# Altium integrated library TI_Logic_Flip-Flop,Latch,Register.IntLib: 2598 symbols (part 82 of 122)
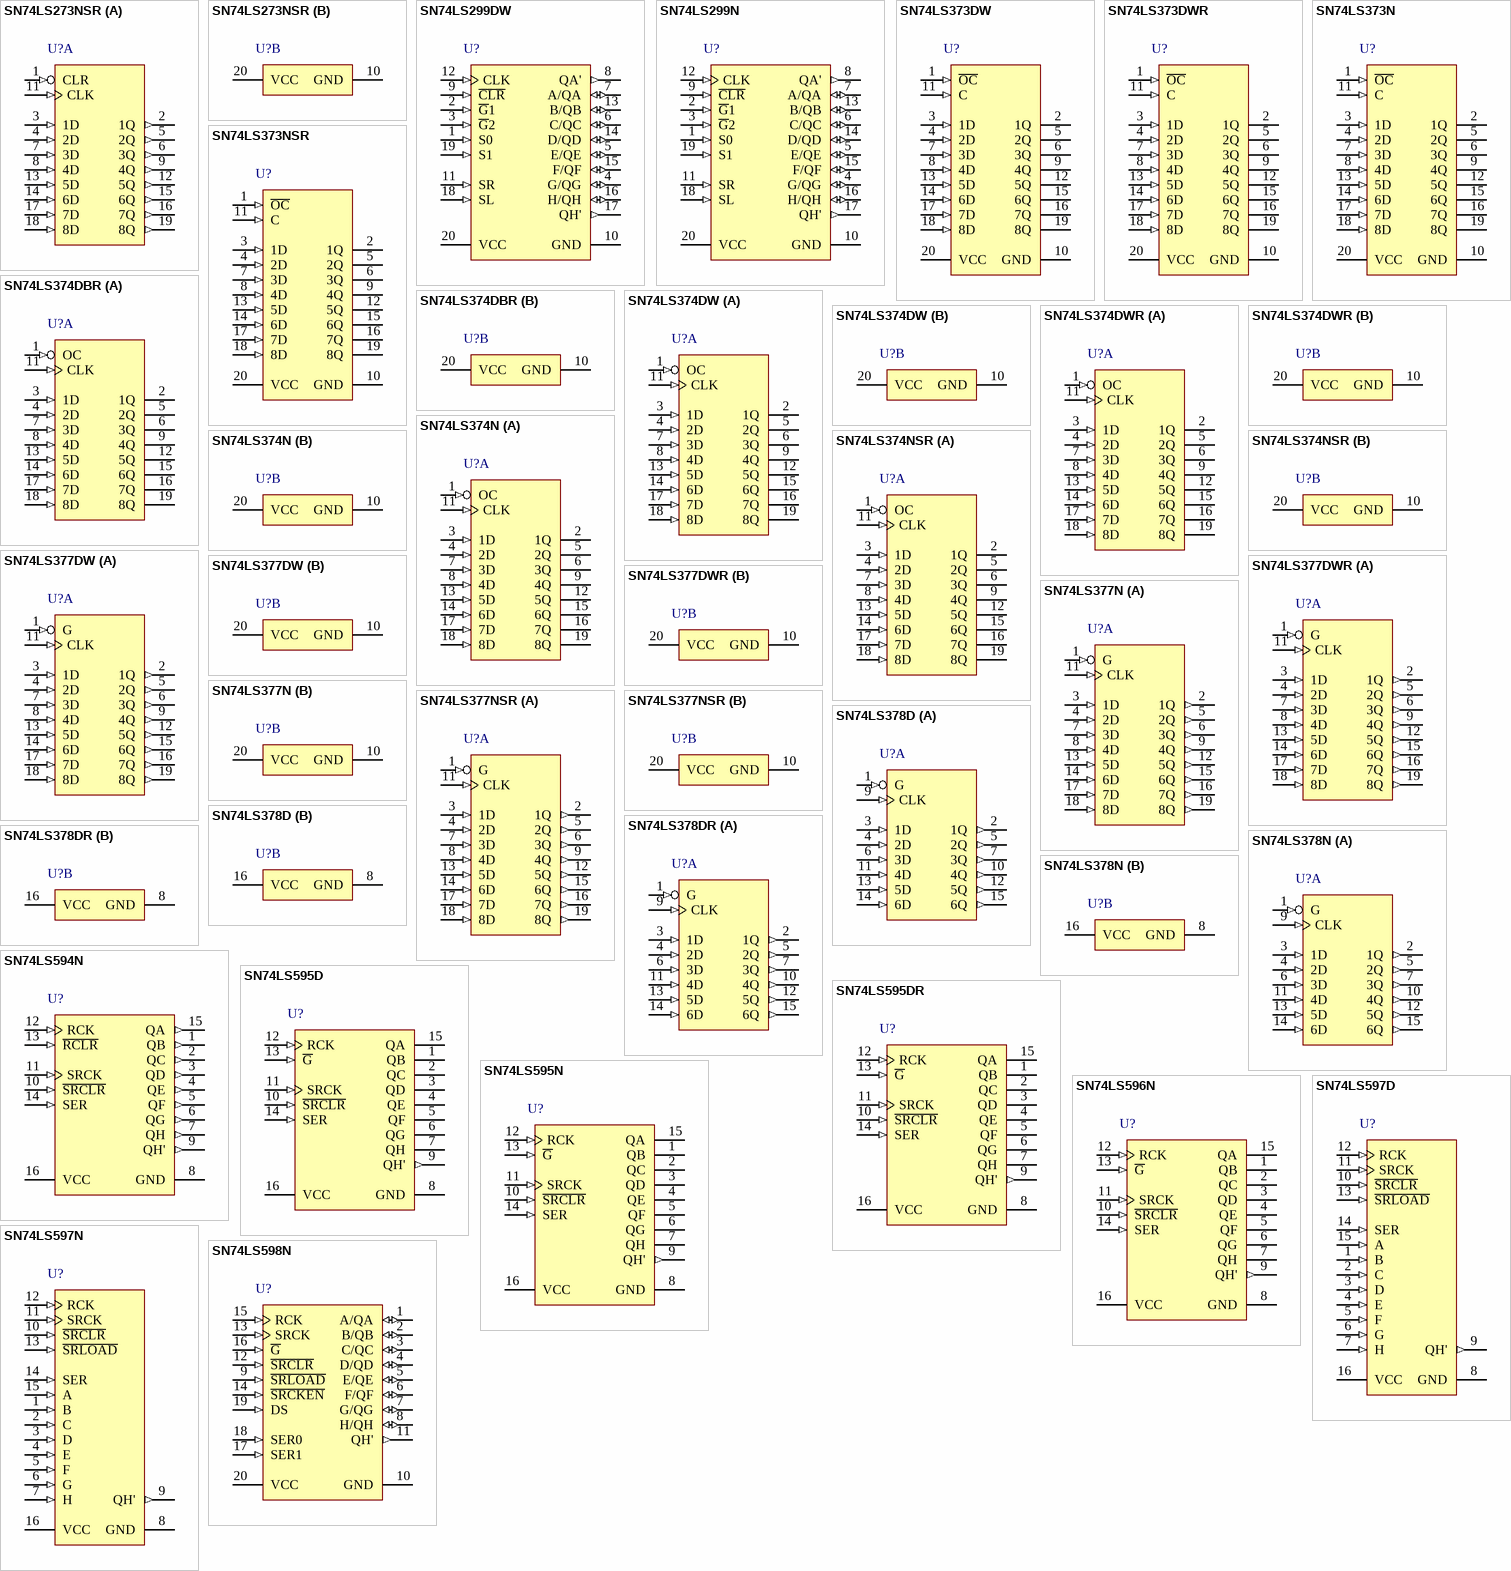
[diagram p220: symbols SN74LS273NSR to SN74LS598N]

## SN74LS377DWR
designator U?
Octal D-Type Flip-Flops With Clock Enable, DW0020A, LARGE T&R; Generic Part Number: SN74LS377; Manufacturer: Texas Instruments; PartNumber: SN74LS377DWR; VCC(Min)(V): 4.75; VCC(Max)(V): 5.25; Output Type: TTL; Output: 2S; ICC @ Nom Voltage(Max)(mA): 28; Bits(#): 8; F @ Nom Voltage(Max)(Mhz): 35; Rating: Catalog; Technology Family: LS; Voltage(Nom)(V): 5; Schmitt Trigger: No; Output Drive (IOL/IOH)(Max)(mA): 8/-0.4; Output Logic: Inverted,Non-inverted; tpd @ Nom Voltage(Max)(ns): 27; DatasheetVersion: SDLS167; PackageReference: DW0020A; Supplier 1: Digi-Key; Supplier Part Number 1: 296-3703-2-ND; Supplier 2: Digi-Key; Supplier Part Number 2: 296-3703-1-ND; Supplier 3: Mouser; Supplier Part Number 3: 595-SN74LS377DWR; Input Type: TTL; Operating Temperature Range(C): 0 to 70; 3-State Output: No; Code_JEDEC: MS-013; ComponentLink1Description: Manufacturer URL; ComponentLink1URL: http://www.ti.com/; ComponentLink2Description: Datasheet; ComponentLink2URL: http://www.ti.com/lit/ds/symlink/sn74ls377.pdf; ComponentLink3Description: Package Specification; ComponentLink3URL: http://www.ti.com/lit/ml/mpds173a/mpds173a.pdf
footprint DW0020A_N (SOIC, 20-Leads, Body 13x7.6mm, Pitch 1.27mm, IPC Medium Density)
footprint DW0020A_M (SOIC, 20-Leads, Body 13x7.6mm, Pitch 1.27mm, IPC Low Density)
footprint DW0020A_L (SOIC, 20-Leads, Body 13x7.6mm, Pitch 1.27mm, IPC High Density)
part A pins: 1 G (in), 2 1Q (out), 3 1D (in), 4 2D (in), 5 2Q (out), 6 3Q (out), 7 3D (in), 8 4D (in), 9 4Q (out), 11 CLK (in), 12 5Q (out), 13 5D (in), 14 6D (in), 15 6Q (out), 16 7Q (out), 17 7D (in), 18 8D (in), 19 8Q (out)
part B pins: 10 GND (power), 20 VCC (power)

## SN74LS377N
designator U?
Octal D-Type Flip-Flops With Clock Enable, N0020A, TUBE; Generic Part Number: SN74LS377; Manufacturer: Texas Instruments; PartNumber: SN74LS377N; VCC(Min)(V): 4.75; VCC(Max)(V): 5.25; Output Type: TTL; Output: 2S; ICC @ Nom Voltage(Max)(mA): 28; Bits(#): 8; F @ Nom Voltage(Max)(Mhz): 35; Rating: Catalog; Technology Family: LS; Voltage(Nom)(V): 5; Schmitt Trigger: No; Output Drive (IOL/IOH)(Max)(mA): 8/-0.4; Output Logic: Inverted,Non-inverted; tpd @ Nom Voltage(Max)(ns): 27; DatasheetVersion: SDLS167; PackageReference: N0020A; Supplier 1: Digi-Key; Supplier Part Number 1: 296-1663-5-ND; Supplier 2: Farnell; Supplier Part Number 2: 1739884; Supplier 3: Newark; Supplier Part Number 3: 59K9087; Supplier 4: Mouser; Supplier Part Number 4: 595-SN74LS377N; Input Type: TTL; Operating Temperature Range(C): 0 to 70; 3-State Output: No; Code_JEDEC: MS-001; ComponentLink1Description: Manufacturer URL; ComponentLink1URL: http://www.ti.com/; ComponentLink2Description: Datasheet; ComponentLink2URL: http://www.ti.com/lit/ds/symlink/sn74ls377.pdf; ComponentLink3Description: Package Specification; ComponentLink3URL: http://www.ti.com/lit/ml/mpdi002c/mpdi002c.pdf
footprint N0020A (DIP, 20-Leads, Body 26.9x6.6mm, Pitch 2.54mm)
part A pins: 1 G (in), 2 1Q (out), 3 1D (in), 4 2D (in), 5 2Q (out), 6 3Q (out), 7 3D (in), 8 4D (in), 9 4Q (out), 11 CLK (in), 12 5Q (out), 13 5D (in), 14 6D (in), 15 6Q (out), 16 7Q (out), 17 7D (in), 18 8D (in), 19 8Q (out)
part B pins: 10 GND (power), 20 VCC (power)

## SN74LS377NSR
designator U?
Octal D-Type Flip-Flops With Clock Enable, NS0020A, LARGE T&R; Generic Part Number: SN74LS377; Manufacturer: Texas Instruments; PartNumber: SN74LS377NSR; VCC(Min)(V): 4.75; VCC(Max)(V): 5.25; Output Type: TTL; Output: 2S; ICC @ Nom Voltage(Max)(mA): 28; Bits(#): 8; F @ Nom Voltage(Max)(Mhz): 35; Rating: Catalog; Technology Family: LS; Voltage(Nom)(V): 5; Schmitt Trigger: No; Output Drive (IOL/IOH)(Max)(mA): 8/-0.4; Output Logic: Inverted,Non-inverted; tpd @ Nom Voltage(Max)(ns): 27; DatasheetVersion: SDLS167; PackageReference: NS0020A; Supplier 1: Digi-Key; Supplier Part Number 1: 296-29917-2-ND; Supplier 2: Digi-Key; Supplier Part Number 2: 296-29917-1-ND; Supplier 3: Digi-Key; Supplier Part Number 3: 296-29917-6-ND; Supplier 4: Mouser; Supplier Part Number 4: 595-SN74LS377NSR; Input Type: TTL; Operating Temperature Range(C): 0 to 70; 3-State Output: No; ComponentLink1Description: Manufacturer URL; ComponentLink1URL: http://www.ti.com/; ComponentLink2Description: Datasheet; ComponentLink2URL: http://www.ti.com/lit/ds/symlink/sn74ls377.pdf; ComponentLink3Description: Package Specification; ComponentLink3URL: http://www.ti.com/lit/ml/msop002a/msop002a.pdf
footprint NS0020A_N (SOIC,20-Leads,Body 12.9x5.6mm,Pitch 1.27mm,IPC Medium Density)
footprint NS0020A_M (SOIC,20-Leads,Body 12.9x5.6mm,Pitch 1.27mm,IPC Low Density)
footprint NS0020A_L (SOIC,20-Leads,Body 12.9x5.6mm,Pitch 1.27mm,IPC High Density)
part A pins: 1 G (in), 2 1Q (out), 3 1D (in), 4 2D (in), 5 2Q (out), 6 3Q (out), 7 3D (in), 8 4D (in), 9 4Q (out), 11 CLK (in), 12 5Q (out), 13 5D (in), 14 6D (in), 15 6Q (out), 16 7Q (out), 17 7D (in), 18 8D (in), 19 8Q (out)
part B pins: 10 GND (power), 20 VCC (power)

## SN74LS378D
designator U?
Hex D-Type Flip-Flops with Clock Enable, D0016A, TUBE; Generic Part Number: SN74LS378; Manufacturer: Texas Instruments; PartNumber: SN74LS378D; VCC(Min)(V): 4.75; VCC(Max)(V): 5.25; Output Type: TTL; Output: 2S; ICC @ Nom Voltage(Max)(mA): 22; Bits(#): 6; F @ Nom Voltage(Max)(Mhz): 35; Rating: Catalog; Technology Family: LS; Voltage(Nom)(V): 5; Schmitt Trigger: No; Output Drive (IOL/IOH)(Max)(mA): 8/-0.4; Output Logic: Inverted,Non-inverted; tpd @ Nom Voltage(Max)(ns): 27; DatasheetVersion: SDLS167; PackageReference: D0016A; Supplier 1: Digi-Key; Supplier Part Number 1: 296-34002-5-ND; Supplier 2: Mouser; Supplier Part Number 2: 595-SN74LS378D; Input Type: TTL; Operating Temperature Range(C): 0 to 70; 3-State Output: No; Code_JEDEC: MS-012 variation AC; ComponentLink1Description: Manufacturer URL; ComponentLink1URL: http://www.ti.com/; ComponentLink2Description: Datasheet; ComponentLink2URL: http://www.ti.com/lit/ds/symlink/sn74ls378.pdf; ComponentLink3Description: Package Specification; ComponentLink3URL: http://www.ti.com/lit/ml/mpds178g/mpds178g.pdf
footprint D0016A_N (SOIC, 16-Leads, Body 10x4mm, Pitch 1.27mm, IPC Medium Density)
footprint D0016A_M (SOIC, 16-Leads, Body 10x4mm, Pitch 1.27mm, IPC Low Density)
footprint D0016A_L (SOIC, 16-Leads, Body 10x4mm, Pitch 1.27mm, IPC High Density)
part A pins: 1 G (in), 2 1Q (out), 3 1D (in), 4 2D (in), 5 2Q (out), 6 3D (in), 7 3Q (out), 9 CLK (in), 10 4Q (out), 11 4D (in), 12 5Q (out), 13 5D (in), 14 6D (in), 15 6Q (out)
part B pins: 8 GND (power), 16 VCC (power)

## SN74LS378DR
designator U?
Hex D-Type Flip-Flops with Clock Enable, D0016A, LARGE T&R; Generic Part Number: SN74LS378; Manufacturer: Texas Instruments; PartNumber: SN74LS378DR; VCC(Min)(V): 4.75; VCC(Max)(V): 5.25; Output Type: TTL; Output: 2S; ICC @ Nom Voltage(Max)(mA): 22; Bits(#): 6; F @ Nom Voltage(Max)(Mhz): 35; Rating: Catalog; Technology Family: LS; Voltage(Nom)(V): 5; Schmitt Trigger: No; Output Drive (IOL/IOH)(Max)(mA): 8/-0.4; Output Logic: Inverted,Non-inverted; tpd @ Nom Voltage(Max)(ns): 27; DatasheetVersion: SDLS167; PackageReference: D0016A; Supplier 1: Digi-Key; Supplier Part Number 1: 296-29450-2-ND; Supplier 2: Digi-Key; Supplier Part Number 2: 296-29450-1-ND; Supplier 3: Digi-Key; Supplier Part Number 3: 296-29450-6-ND; Supplier 4: Mouser; Supplier Part Number 4: 595-SN74LS378DR; Input Type: TTL; Operating Temperature Range(C): 0 to 70; 3-State Output: No; Code_JEDEC: MS-012 variation AC; ComponentLink1Description: Manufacturer URL; ComponentLink1URL: http://www.ti.com/; ComponentLink2Description: Datasheet; ComponentLink2URL: http://www.ti.com/lit/ds/symlink/sn74ls378.pdf; ComponentLink3Description: Package Specification; ComponentLink3URL: http://www.ti.com/lit/ml/mpds178g/mpds178g.pdf
footprint D0016A_N (SOIC, 16-Leads, Body 10x4mm, Pitch 1.27mm, IPC Medium Density)
footprint D0016A_M (SOIC, 16-Leads, Body 10x4mm, Pitch 1.27mm, IPC Low Density)
footprint D0016A_L (SOIC, 16-Leads, Body 10x4mm, Pitch 1.27mm, IPC High Density)
part A pins: 1 G (in), 2 1Q (out), 3 1D (in), 4 2D (in), 5 2Q (out), 6 3D (in), 7 3Q (out), 9 CLK (in), 10 4Q (out), 11 4D (in), 12 5Q (out), 13 5D (in), 14 6D (in), 15 6Q (out)
part B pins: 8 GND (power), 16 VCC (power)

## SN74LS378N
designator U?
Hex D-Type Flip-Flops with Clock Enable, N0016A, TUBE; Generic Part Number: SN74LS378; Manufacturer: Texas Instruments; PartNumber: SN74LS378N; VCC(Min)(V): 4.75; VCC(Max)(V): 5.25; Output Type: TTL; Output: 2S; ICC @ Nom Voltage(Max)(mA): 22; Bits(#): 6; F @ Nom Voltage(Max)(Mhz): 35; Rating: Catalog; Technology Family: LS; Voltage(Nom)(V): 5; Schmitt Trigger: No; Output Drive (IOL/IOH)(Max)(mA): 8/-0.4; Output Logic: Inverted,Non-inverted; tpd @ Nom Voltage(Max)(ns): 27; DatasheetVersion: SDLS167; PackageReference: N0016A; Supplier 1: Digi-Key; Supplier Part Number 1: 296-34003-5-ND; Supplier 2: Farnell; Supplier Part Number 2: 1739885; Supplier 3: Newark; Supplier Part Number 3: 50R6563; Supplier 4: Mouser; Supplier Part Number 4: 595-SN74LS378N; Input Type: TTL; Operating Temperature Range(C): 0 to 70; 3-State Output: No; Code_JEDEC: MS-001; ComponentLink1Description: Manufacturer URL; ComponentLink1URL: http://www.ti.com/; ComponentLink2Description: Datasheet; ComponentLink2URL: http://www.ti.com/lit/ds/symlink/sn74ls378.pdf; ComponentLink3Description: Package Specification; ComponentLink3URL: http://www.ti.com/lit/ml/mpdi002c/mpdi002c.pdf
footprint N0016A (DIP, 16-Leads, Body 19.7x6.6mm, Pitch 2.54mm)
part A pins: 1 G (in), 2 1Q (out), 3 1D (in), 4 2D (in), 5 2Q (out), 6 3D (in), 7 3Q (out), 9 CLK (in), 10 4Q (out), 11 4D (in), 12 5Q (out), 13 5D (in), 14 6D (in), 15 6Q (out)
part B pins: 8 GND (power), 16 VCC (power)

## SN74LS594N
designator U?
Serial-in shift registers with output latches, N0016A, TUBE; Generic Part Number: SN74LS594; Manufacturer: Texas Instruments; PartNumber: SN74LS594N; Technology Family: LS; VCC(Min)(V): 4.75; VCC(Max)(V): 5.25; Voltage(Nom)(V): 5; F @ Nom Voltage(Max)(Mhz): 35; ICC @ Nom Voltage(Max)(mA): 65; tpd @ Nom Voltage(Max)(ns): 25; Output Drive (IOL/IOH)(Max)(mA): 24/-2.6; Input Type: TTL; 3-State Output: No; Rating: Catalog; DatasheetVersion: SDLS005; PackageReference: N0016A; Output Type: TTL; Operating Temperature Range(C): 0 to 70; Code_JEDEC: MS-001; ComponentLink1Description: Manufacturer URL; ComponentLink1URL: http://www.ti.com/; ComponentLink2Description: Datasheet; ComponentLink2URL: http://www.ti.com/lit/ds/symlink/sn74ls594.pdf; ComponentLink3Description: Package Specification; ComponentLink3URL: http://www.ti.com/lit/ml/mpdi002c/mpdi002c.pdf
footprint N0016A (DIP, 16-Leads, Body 19.7x6.6mm, Pitch 2.54mm)
pins: 1 QB (out), 2 QC (out), 3 QD (out), 4 QE (out), 5 QF (out), 6 QG (out), 7 QH (out), 8 GND (power), 9 QH' (out), 10 ~{SRCLR} (in), 11 SRCK (in), 12 RCK (in), 13 ~{RCLR} (in), 14 SER (in), 15 QA (out), 16 VCC (power)

## SN74LS595D
designator U?
Serial-in shift registers with output registers, D0016A, TUBE; Generic Part Number: SN74LS595; Manufacturer: Texas Instruments; PartNumber: SN74LS595D; Technology Family: LS; VCC(Min)(V): 4.75; VCC(Max)(V): 5.25; Voltage(Nom)(V): 5; F @ Nom Voltage(Max)(Mhz): 35; ICC @ Nom Voltage(Max)(mA): 65; tpd @ Nom Voltage(Max)(ns): 25; Output Drive (IOL/IOH)(Max)(mA): 24/-2.6; Input Type: TTL; 3-State Output: Yes; Rating: Catalog; Bits: 8; DatasheetVersion: SDLS006; PackageReference: D0016A; Output Type: TTL; Operating Temperature Range(C): 0 to 70; Code_JEDEC: MS-012 variation AC; ComponentLink1Description: Manufacturer URL; ComponentLink1URL: http://www.ti.com/; ComponentLink2Description: Datasheet; ComponentLink2URL: http://www.ti.com/lit/ds/symlink/sn74ls595.pdf; ComponentLink3Description: Package Specification; ComponentLink3URL: http://www.ti.com/lit/ml/mpds178g/mpds178g.pdf
footprint D0016A_N (SOIC, 16-Leads, Body 10x4mm, Pitch 1.27mm, IPC Medium Density)
footprint D0016A_M (SOIC, 16-Leads, Body 10x4mm, Pitch 1.27mm, IPC Low Density)
footprint D0016A_L (SOIC, 16-Leads, Body 10x4mm, Pitch 1.27mm, IPC High Density)
pins: 1 QB (hiz), 2 QC (hiz), 3 QD (hiz), 4 QE (hiz), 5 QF (hiz), 6 QG (hiz), 7 QH (hiz), 8 GND (power), 9 QH' (out), 10 ~{SRCLR} (in), 11 SRCK (in), 12 RCK (in), 13 ~{G} (in), 14 SER (in), 15 QA (hiz), 16 VCC (power)

## SN74LS595DR
designator U?
Serial-in shift registers with output registers, D0016A, LARGE T&R; Generic Part Number: SN74LS595; Manufacturer: Texas Instruments; PartNumber: SN74LS595DR; Technology Family: LS; VCC(Min)(V): 4.75; VCC(Max)(V): 5.25; Voltage(Nom)(V): 5; F @ Nom Voltage(Max)(Mhz): 35; ICC @ Nom Voltage(Max)(mA): 65; tpd @ Nom Voltage(Max)(ns): 25; Output Drive (IOL/IOH)(Max)(mA): 24/-2.6; Input Type: TTL; 3-State Output: Yes; Rating: Catalog; Bits: 8; DatasheetVersion: SDLS006; PackageReference: D0016A; Output Type: TTL; Operating Temperature Range(C): 0 to 70; Code_JEDEC: MS-012 variation AC; ComponentLink1Description: Manufacturer URL; ComponentLink1URL: http://www.ti.com/; ComponentLink2Description: Datasheet; ComponentLink2URL: http://www.ti.com/lit/ds/symlink/sn74ls595.pdf; ComponentLink3Description: Package Specification; ComponentLink3URL: http://www.ti.com/lit/ml/mpds178g/mpds178g.pdf
footprint D0016A_N (SOIC, 16-Leads, Body 10x4mm, Pitch 1.27mm, IPC Medium Density)
footprint D0016A_M (SOIC, 16-Leads, Body 10x4mm, Pitch 1.27mm, IPC Low Density)
footprint D0016A_L (SOIC, 16-Leads, Body 10x4mm, Pitch 1.27mm, IPC High Density)
pins: 1 QB (hiz), 2 QC (hiz), 3 QD (hiz), 4 QE (hiz), 5 QF (hiz), 6 QG (hiz), 7 QH (hiz), 8 GND (power), 9 QH' (out), 10 ~{SRCLR} (in), 11 SRCK (in), 12 RCK (in), 13 ~{G} (in), 14 SER (in), 15 QA (hiz), 16 VCC (power)

## SN74LS595N
designator U?
Serial-in shift registers with output registers, N0016A, TUBE; Generic Part Number: SN74LS595; Manufacturer: Texas Instruments; PartNumber: SN74LS595N; Technology Family: LS; VCC(Min)(V): 4.75; VCC(Max)(V): 5.25; Voltage(Nom)(V): 5; F @ Nom Voltage(Max)(Mhz): 35; ICC @ Nom Voltage(Max)(mA): 65; tpd @ Nom Voltage(Max)(ns): 25; Output Drive (IOL/IOH)(Max)(mA): 24/-2.6; Input Type: TTL; 3-State Output: Yes; Rating: Catalog; Bits: 8; DatasheetVersion: SDLS006; PackageReference: N0016A; Output Type: TTL; Operating Temperature Range(C): 0 to 70; Code_JEDEC: MS-001; ComponentLink1Description: Manufacturer URL; ComponentLink1URL: http://www.ti.com/; ComponentLink2Description: Datasheet; ComponentLink2URL: http://www.ti.com/lit/ds/symlink/sn74ls595.pdf; ComponentLink3Description: Package Specification; ComponentLink3URL: http://www.ti.com/lit/ml/mpdi002c/mpdi002c.pdf
footprint N0016A (DIP, 16-Leads, Body 19.7x6.6mm, Pitch 2.54mm)
pins: 1 QB (hiz), 2 QC (hiz), 3 QD (hiz), 4 QE (hiz), 5 QF (hiz), 6 QG (hiz), 7 QH (hiz), 8 GND (power), 9 QH' (out), 10 ~{SRCLR} (in), 11 SRCK (in), 12 RCK (in), 13 ~{G} (in), 14 SER (in), 15 QA (hiz), 16 VCC (power)

## SN74LS596N
designator U?
Serial-in shift registers with output registers and open collector outputs, N0016A, TUBE; Generic Part Number: SN74LS596; Manufacturer: Texas Instruments; PartNumber: SN74LS596N; Technology Family: LS; VCC(Min)(V): 4.75; VCC(Max)(V): 5.25; Voltage(Nom)(V): 5; F @ Nom Voltage(Max)(Mhz): 35; ICC @ Nom Voltage(Max)(mA): 55; tpd @ Nom Voltage(Max)(ns): 30; Output Drive (IOL/IOH)(Max)(mA): 24/-2.6; Input Type: TTL; 3-State Output: Yes; Rating: Catalog; Bits: 8; DatasheetVersion: SDLS006; PackageReference: N0016A; Output Type: TTL; Operating Temperature Range(C): 0 to 70; Code_JEDEC: MS-001; ComponentLink1Description: Manufacturer URL; ComponentLink1URL: http://www.ti.com/; ComponentLink2Description: Datasheet; ComponentLink2URL: http://www.ti.com/lit/ds/symlink/sn74ls596.pdf; ComponentLink3Description: Package Specification; ComponentLink3URL: http://www.ti.com/lit/ml/mpdi002c/mpdi002c.pdf
footprint N0016A (DIP, 16-Leads, Body 19.7x6.6mm, Pitch 2.54mm)
pins: 1 QB (oc), 2 QC (oc), 3 QD (oc), 4 QE (oc), 5 QF (oc), 6 QG (oc), 7 QH (oc), 8 GND (power), 9 QH' (out), 10 ~{SRCLR} (in), 11 SRCK (in), 12 RCK (in), 13 ~{G} (in), 14 SER (in), 15 QA (oc), 16 VCC (power)

## SN74LS597D
designator U?
Serial-out shift registers with input latches, D0016A, TUBE; Generic Part Number: SN74LS597; Manufacturer: Texas Instruments; PartNumber: SN74LS597D; Technology Family: LS; VCC(Min)(V): 4.75; VCC(Max)(V): 5.25; Voltage(Nom)(V): 5; F @ Nom Voltage(Max)(Mhz): 35; ICC @ Nom Voltage(Max)(mA): 53; tpd @ Nom Voltage(Max)(ns): 30; Output Drive (IOL/IOH)(Max)(mA): 24/-2.6; Input Type: TTL; 3-State Output: No; Rating: Catalog; Bits: 8; DatasheetVersion: SDLS007; PackageReference: D0016A; Output Type: TTL; Operating Temperature Range(C): 0 to 70; Code_JEDEC: MS-012 variation AC; ComponentLink1Description: Manufacturer URL; ComponentLink1URL: http://www.ti.com/; ComponentLink2Description: Datasheet; ComponentLink2URL: http://www.ti.com/lit/ds/symlink/sn74ls597.pdf; ComponentLink3Description: Package Specification; ComponentLink3URL: http://www.ti.com/lit/ml/mpds178g/mpds178g.pdf
footprint D0016A_N (SOIC, 16-Leads, Body 10x4mm, Pitch 1.27mm, IPC Medium Density)
footprint D0016A_M (SOIC, 16-Leads, Body 10x4mm, Pitch 1.27mm, IPC Low Density)
footprint D0016A_L (SOIC, 16-Leads, Body 10x4mm, Pitch 1.27mm, IPC High Density)
pins: 1 B (in), 2 C (in), 3 D (in), 4 E (in), 5 F (in), 6 G (in), 7 H (in), 8 GND (power), 9 QH' (out), 10 ~{SRCLR} (in), 11 SRCK (in), 12 RCK (in), 13 ~{SRLOAD} (in), 14 SER (in), 15 A (in), 16 VCC (power)

## SN74LS597N
designator U?
Serial-out shift registers with input latches, N0016A, TUBE; Generic Part Number: SN74LS597; Manufacturer: Texas Instruments; PartNumber: SN74LS597N; Technology Family: LS; VCC(Min)(V): 4.75; VCC(Max)(V): 5.25; Voltage(Nom)(V): 5; F @ Nom Voltage(Max)(Mhz): 35; ICC @ Nom Voltage(Max)(mA): 53; tpd @ Nom Voltage(Max)(ns): 30; Output Drive (IOL/IOH)(Max)(mA): 24/-2.6; Input Type: TTL; 3-State Output: No; Rating: Catalog; Bits: 8; DatasheetVersion: SDLS007; PackageReference: N0016A; Output Type: TTL; Operating Temperature Range(C): 0 to 70; Code_JEDEC: MS-001; ComponentLink1Description: Manufacturer URL; ComponentLink1URL: http://www.ti.com/; ComponentLink2Description: Datasheet; ComponentLink2URL: http://www.ti.com/lit/ds/symlink/sn74ls597.pdf; ComponentLink3Description: Package Specification; ComponentLink3URL: http://www.ti.com/lit/ml/mpdi002c/mpdi002c.pdf
footprint N0016A (DIP, 16-Leads, Body 19.7x6.6mm, Pitch 2.54mm)
pins: 1 B (in), 2 C (in), 3 D (in), 4 E (in), 5 F (in), 6 G (in), 7 H (in), 8 GND (power), 9 QH' (out), 10 ~{SRCLR} (in), 11 SRCK (in), 12 RCK (in), 13 ~{SRLOAD} (in), 14 SER (in), 15 A (in), 16 VCC (power)

## SN74LS598N
designator U?
Shift registers with input latches, N0020A, TUBE; Generic Part Number: SN74LS598; Manufacturer: Texas Instruments; PartNumber: SN74LS598N; Technology Family: LS; VCC(Min)(V): 4.75; VCC(Max)(V): 5.25; Voltage(Nom)(V): 5; F @ Nom Voltage(Max)(Mhz): 35; ICC @ Nom Voltage(Max)(mA): 85; tpd @ Nom Voltage(Max)(ns): 23; Output Drive (IOL/IOH)(Max)(mA): 24/-2.6; Input Type: TTL; 3-State Output: No; Rating: Catalog; Bits: 8; DatasheetVersion: SDLS007; PackageReference: N0020A; Output Type: TTL; Operating Temperature Range(C): 0 to 70; Code_JEDEC: MS-001; ComponentLink1Description: Manufacturer URL; ComponentLink1URL: http://www.ti.com/; ComponentLink2Description: Datasheet; ComponentLink2URL: http://www.ti.com/lit/ds/symlink/sn74ls598.pdf; ComponentLink3Description: Package Specification; ComponentLink3URL: http://www.ti.com/lit/ml/mpdi002c/mpdi002c.pdf
footprint N0020A (DIP, 20-Leads, Body 26.9x6.6mm, Pitch 2.54mm)
pins: 1 A/QA (io), 2 B/QB (io), 3 C/QC (io), 4 D/QD (io), 5 E/QE (io), 6 F/QF (io), 7 G/QG (io), 8 H/QH (io), 9 ~{SRLOAD} (in), 10 GND (power), 11 QH' (out), 12 ~{SRCLR} (in), 13 SRCK (in), 14 ~{SRCKEN} (in), 15 RCK (in), 16 ~{G} (in), 17 SER1 (in), 18 SER0 (in), 19 DS (in), 20 VCC (power)

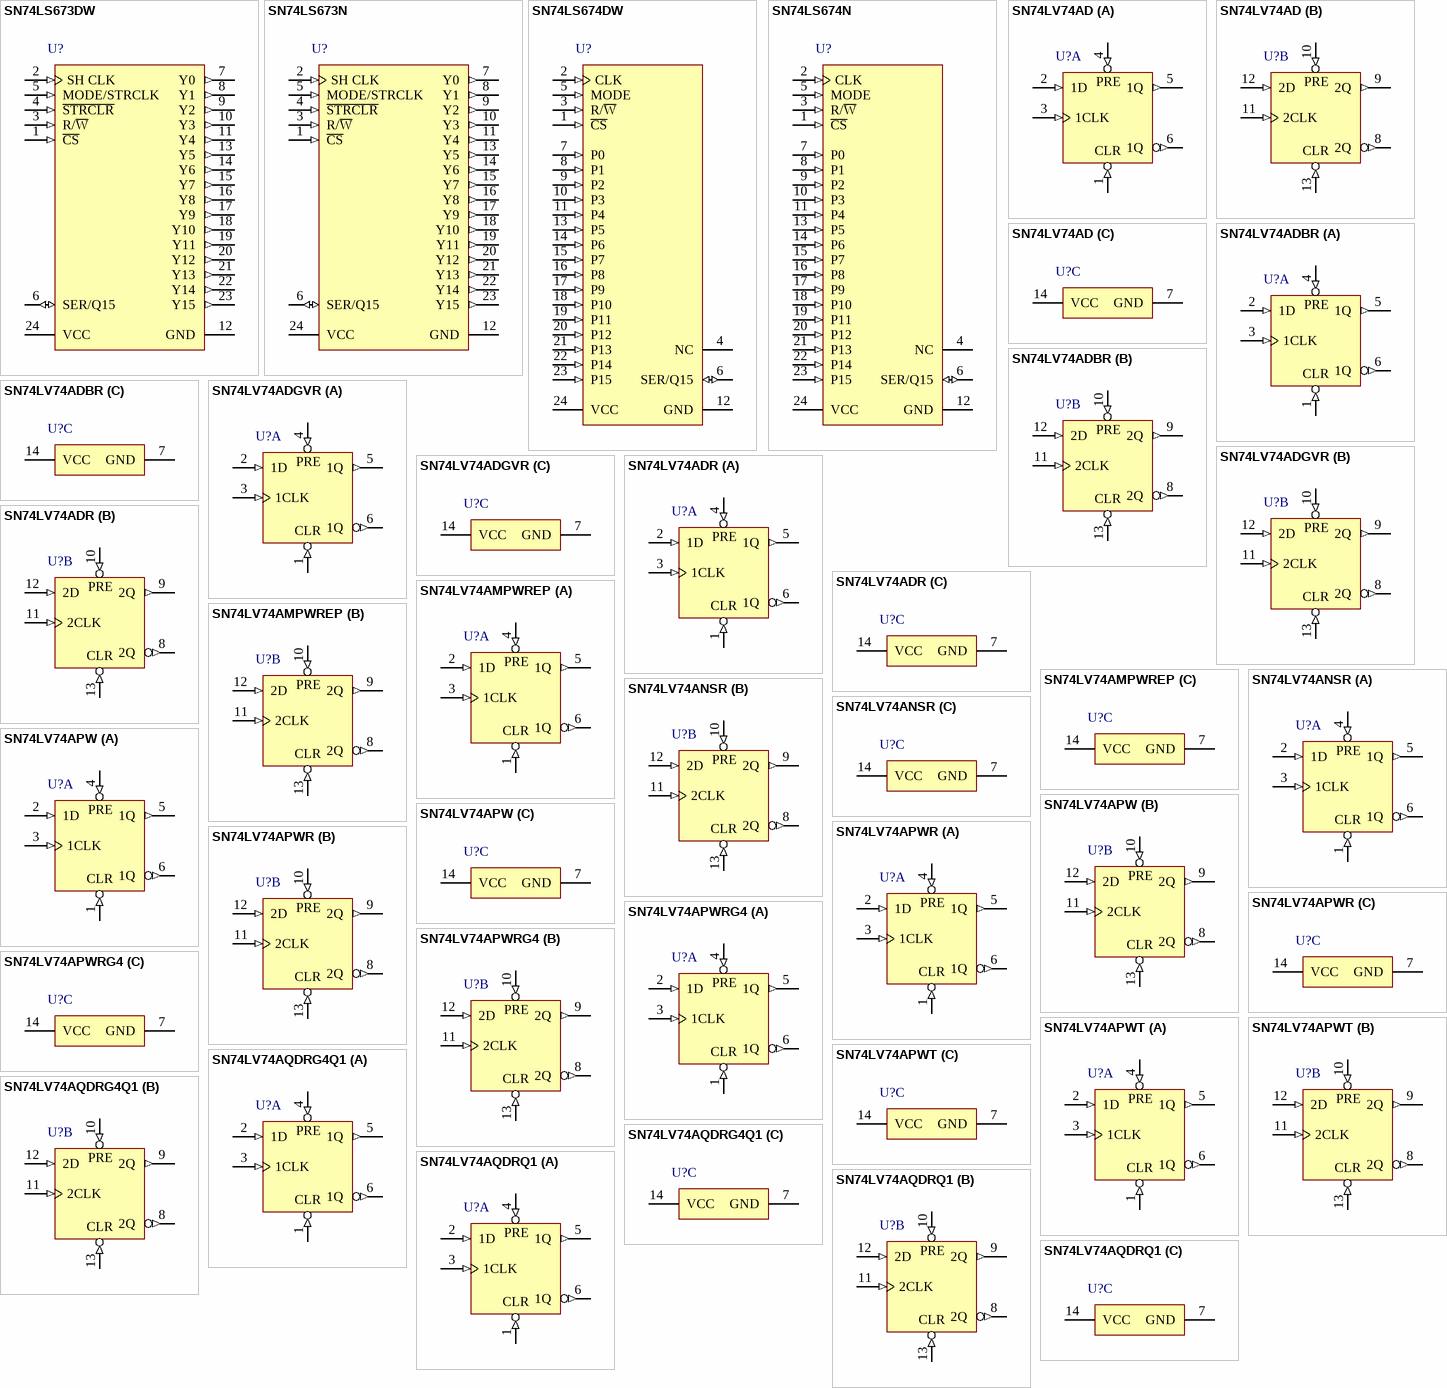
[diagram p97: symbols SN74LS673DW to SN74LV74AQDRQ1]

## SN74LS673DW
designator U?
Serial-in shift registers with output storage registers, DW0024A, TUBE; Generic Part Number: SN74LS673; Manufacturer: Texas Instruments; PartNumber: SN74LS673DW; Technology Family: LS; VCC(Min)(V): 4.75; VCC(Max)(V): 5.25; Voltage(Nom)(V): 5; F @ Nom Voltage(Max)(Mhz): 35; ICC @ Nom Voltage(Max)(mA): 80; tpd @ Nom Voltage(Max)(ns): 40; Output Drive (IOL/IOH)(Max)(mA): 24/-2.6; Input Type: TTL; 3-State Output: No; Rating: Catalog; DatasheetVersion: SDLS195; PackageReference: DW0024A; Output Type: TTL; Operating Temperature Range(C): 0 to 70; Code_JEDEC: MS-013; ComponentLink1Description: Manufacturer URL; ComponentLink1URL: http://www.ti.com/; ComponentLink2Description: Datasheet; ComponentLink2URL: http://www.ti.com/lit/ds/symlink/sn74ls673.pdf; ComponentLink3Description: Package Specification; ComponentLink3URL: http://www.ti.com/lit/ml/mpds174a/mpds174a.pdf
footprint DW0024A_N (SOIC, 24-Leads, Body 15.6x7.6mm, Pitch 1.27mm, IPC Medium Density)
footprint DW0024A_M (SOIC, 24-Leads, Body 15.6x7.6mm, Pitch 1.27mm, IPC Low Density)
footprint DW0024A_L (SOIC, 24-Leads, Body 15.6x7.6mm, Pitch 1.27mm, IPC High Density)
pins: 1 ~{CS} (in), 2 SH CLK (in), 3 R/~{W} (in), 4 ~{STRCLR} (in), 5 MODE/STRCLK (in), 6 SER/Q15 (io), 7 Y0 (out), 8 Y1 (out), 9 Y2 (out), 10 Y3 (out), 11 Y4 (out), 12 GND (power), 13 Y5 (out), 14 Y6 (out), 15 Y7 (out), 16 Y8 (out), 17 Y9 (out), 18 Y10 (out), 19 Y11 (out), 20 Y12 (out), 21 Y13 (out), 22 Y14 (out), 23 Y15 (out), 24 VCC (power)

## SN74LS673N
designator U?
Serial-in shift registers with output storage registers, N0024A, TUBE; Generic Part Number: SN74LS673; Manufacturer: Texas Instruments; PartNumber: SN74LS673N; Technology Family: LS; VCC(Min)(V): 4.75; VCC(Max)(V): 5.25; Voltage(Nom)(V): 5; F @ Nom Voltage(Max)(Mhz): 35; ICC @ Nom Voltage(Max)(mA): 80; tpd @ Nom Voltage(Max)(ns): 40; Output Drive (IOL/IOH)(Max)(mA): 24/-2.6; Input Type: TTL; 3-State Output: No; Rating: Catalog; Bits: 8; DatasheetVersion: SDLS195; PackageReference: N0024A; Output Type: TTL; Operating Temperature Range(C): 0 to 70; Code_JEDEC: MS-011; ComponentLink1Description: Manufacturer URL; ComponentLink1URL: http://www.ti.com/; ComponentLink2Description: Datasheet; ComponentLink2URL: http://www.ti.com/lit/ds/symlink/sn74ls673.pdf; ComponentLink3Description: Package Specification; ComponentLink3URL: http://www.ti.com/lit/ml/mpdi008/mpdi008.pdf
footprint N0024A (DIP, 24-Leads, Body 32.25x14.2mm, Pitch 2.54mm)
pins: 1 ~{CS} (in), 2 SH CLK (in), 3 R/~{W} (in), 4 ~{STRCLR} (in), 5 MODE/STRCLK (in), 6 SER/Q15 (io), 7 Y0 (out), 8 Y1 (out), 9 Y2 (out), 10 Y3 (out), 11 Y4 (out), 12 GND (power), 13 Y5 (out), 14 Y6 (out), 15 Y7 (out), 16 Y8 (out), 17 Y9 (out), 18 Y10 (out), 19 Y11 (out), 20 Y12 (out), 21 Y13 (out), 22 Y14 (out), 23 Y15 (out), 24 VCC (power)

## SN74LS674DW
designator U?
Serial-out shift registers, DW0024A, TUBE; Generic Part Number: SN74LS674; Manufacturer: Texas Instruments; PartNumber: SN74LS674DW; Technology Family: LS; VCC(Min)(V): 4.75; VCC(Max)(V): 5.25; Voltage(Nom)(V): 5; F @ Nom Voltage(Max)(Mhz): 35; ICC @ Nom Voltage(Max)(mA): 40; Output Drive (IOL/IOH)(Max)(mA): 24/-2.6; Input Type: TTL; 3-State Output: No; Rating: Catalog; DatasheetVersion: SDLS195; PackageReference: DW0024A; tpd @ Nom Voltage(Max)(ns): 40; Output Type: TTL; Operating Temperature Range(C): 0 to 70; Code_JEDEC: MS-013; ComponentLink1Description: Manufacturer URL; ComponentLink1URL: http://www.ti.com/; ComponentLink2Description: Datasheet; ComponentLink2URL: http://www.ti.com/lit/ds/symlink/sn74ls674.pdf; ComponentLink3Description: Package Specification; ComponentLink3URL: http://www.ti.com/lit/ml/mpds174a/mpds174a.pdf
footprint DW0024A_N (SOIC, 24-Leads, Body 15.6x7.6mm, Pitch 1.27mm, IPC Medium Density)
footprint DW0024A_M (SOIC, 24-Leads, Body 15.6x7.6mm, Pitch 1.27mm, IPC Low Density)
footprint DW0024A_L (SOIC, 24-Leads, Body 15.6x7.6mm, Pitch 1.27mm, IPC High Density)
pins: 1 ~{CS} (in), 2 CLK (in), 3 R/~{W} (in), 4 NC, 5 MODE (in), 6 SER/Q15 (io), 7 P0 (in), 8 P1 (in), 9 P2 (in), 10 P3 (in), 11 P4 (in), 12 GND (power), 13 P5 (in), 14 P6 (in), 15 P7 (in), 16 P8 (in), 17 P9 (in), 18 P10 (in), 19 P11 (in), 20 P12 (in), 21 P13 (in), 22 P14 (in), 23 P15 (in), 24 VCC (power)

## SN74LS674N
designator U?
Serial-out shift registers, N0024A, TUBE; Generic Part Number: SN74LS674; Manufacturer: Texas Instruments; PartNumber: SN74LS674N; Technology Family: LS; VCC(Min)(V): 4.75; VCC(Max)(V): 5.25; Voltage(Nom)(V): 5; F @ Nom Voltage(Max)(Mhz): 35; ICC @ Nom Voltage(Max)(mA): 40; Output Drive (IOL/IOH)(Max)(mA): 24/-2.6; Input Type: TTL; 3-State Output: No; Rating: Catalog; Bits: 8; DatasheetVersion: SDLS195; PackageReference: N0024A; tpd @ Nom Voltage(Max)(ns): 40; Output Type: TTL; Operating Temperature Range(C): 0 to 70; Code_JEDEC: MS-011; ComponentLink1Description: Manufacturer URL; ComponentLink1URL: http://www.ti.com/; ComponentLink2Description: Datasheet; ComponentLink2URL: http://www.ti.com/lit/ds/symlink/sn74ls674.pdf; ComponentLink3Description: Package Specification; ComponentLink3URL: http://www.ti.com/lit/ml/mpdi008/mpdi008.pdf
footprint N0024A (DIP, 24-Leads, Body 32.25x14.2mm, Pitch 2.54mm)
pins: 1 ~{CS} (in), 2 CLK (in), 3 R/~{W} (in), 4 NC, 5 MODE (in), 6 SER/Q15 (io), 7 P0 (in), 8 P1 (in), 9 P2 (in), 10 P3 (in), 11 P4 (in), 12 GND (power), 13 P5 (in), 14 P6 (in), 15 P7 (in), 16 P8 (in), 17 P9 (in), 18 P10 (in), 19 P11 (in), 20 P12 (in), 21 P13 (in), 22 P14 (in), 23 P15 (in), 24 VCC (power)

## SN74LV74AD
designator U?
Dual Positive-Edge-Triggered D-Type Flip-Flops, D0014A, TUBE; Generic Part Number: SN74LV74A; Manufacturer: Texas Instruments; PartNumber: SN74LV74AD; VCC(Min)(V): 2; VCC(Max)(V): 5.5; Output Type: CMOS; ICC @ Nom Voltage(Max)(mA): 0.02; F @ Nom Voltage(Max)(Mhz): 70; Rating: Catalog; Technology Family: LV-A; Voltage(Nom)(V): 2.5,3.3,5; Schmitt Trigger: No; Output Drive (IOL/IOH)(Max)(mA): 50/-50; Output Logic: Inverted,Non-inverted; tpd @ Nom Voltage(Max)(ns): 17,14.5,9; DatasheetVersion: SCLS381M; PackageReference: D0014A; Supplier 1: Digi-Key; Supplier Part Number 1: 296-1692-5-ND; Supplier 2: Farnell; Supplier Part Number 2: 1652009; Supplier 3: Newark; Supplier Part Number 3: 39T5449; Supplier 4: Mouser; Supplier Part Number 4: 595-SN74LV74AD; Input Type: CMOS; Bits(#): 2; Operating Temperature Range(C): -40 to 125,-40 to 85; 3-State Output: No; Code_JEDEC: MS-012; ComponentLink1Description: Manufacturer URL; ComponentLink1URL: http://www.ti.com/; ComponentLink2Description: Datasheet; ComponentLink2URL: http://www.ti.com/lit/ds/symlink/sn74lv74a.pdf; ComponentLink3Description: Package Specification; ComponentLink3URL: http://www.ti.com/lit/ml/mpds177g/mpds177g.pdf
footprint D0014A_N (SOIC, 14-Leads, Body 8.75x4mm, Pitch 1.27mm, IPC Medium Density)
footprint D0014A_M (SOIC, 14-Leads, Body 8.75x4mm, Pitch 1.27mm, IPC Low Density)
footprint D0014A_L (SOIC, 14-Leads, Body 8.75x4mm, Pitch 1.27mm, IPC High Density)
part A pins: 1 1~{CLR} (in), 2 1D (in), 3 1CLK (in), 4 1~{PRE} (in), 5 1Q (out), 6 1Q (out)
part B pins: 8 2Q (out), 9 2Q (out), 10 2~{PRE} (in), 11 2CLK (in), 12 2D (in), 13 2~{CLR} (in)
part C pins: 7 GND (power), 14 VCC (power)
part A text: PRE; CLR
part B text: PRE; CLR

## SN74LV74ADBR
designator U?
Dual Positive-Edge-Triggered D-Type Flip-Flops, DB0014A, LARGE T&R; Generic Part Number: SN74LV74A; Manufacturer: Texas Instruments; PartNumber: SN74LV74ADBR; VCC(Min)(V): 2; VCC(Max)(V): 5.5; Output Type: CMOS; ICC @ Nom Voltage(Max)(mA): 0.02; F @ Nom Voltage(Max)(Mhz): 70; Rating: Catalog; Technology Family: LV-A; Voltage(Nom)(V): 2.5,3.3,5; Schmitt Trigger: No; Output Drive (IOL/IOH)(Max)(mA): 50/-50; Output Logic: Inverted,Non-inverted; tpd @ Nom Voltage(Max)(ns): 17,14.5,9; DatasheetVersion: SCLS381M; PackageReference: DB0014A; Supplier 1: Digi-Key; Supplier Part Number 1: 296-3844-2-ND; Supplier 2: Digi-Key; Supplier Part Number 2: 296-3844-1-ND; Supplier 3: Digi-Key; Supplier Part Number 3: 296-3844-6-ND; Supplier 4: Newark; Supplier Part Number 4: 76C4924; Supplier 5: Mouser; Supplier Part Number 5: 595-SN74LV74ADBR; Input Type: CMOS; Bits(#): 2; Operating Temperature Range(C): -40 to 125,-40 to 85; 3-State Output: No; Code_JEDEC: MO-150; ComponentLink1Description: Manufacturer URL; ComponentLink1URL: http://www.ti.com/; ComponentLink2Description: Datasheet; ComponentLink2URL: http://www.ti.com/lit/ds/symlink/sn74lv74a.pdf; ComponentLink3Description: Package Specification; ComponentLink3URL: http://www.ti.com/lit/ml/msso002e/msso002e.pdf
footprint DB0014A_N (SOP, 14-Leads, Body 5.6x6.5mm, Pitch 0.65mm, IPC Medium Density)
footprint DB0014A_M (SOP, 14-Leads, Body 5.6x6.5mm, Pitch 0.65mm, IPC Low Density)
footprint DB0014A_L (SOP, 14-Leads, Body 5.6x6.5mm, Pitch 0.65mm, IPC High Density)
part A pins: 1 1~{CLR} (in), 2 1D (in), 3 1CLK (in), 4 1~{PRE} (in), 5 1Q (out), 6 1Q (out)
part B pins: 8 2Q (out), 9 2Q (out), 10 2~{PRE} (in), 11 2CLK (in), 12 2D (in), 13 2~{CLR} (in)
part C pins: 7 GND (power), 14 VCC (power)
part A text: PRE; CLR
part B text: PRE; CLR

## SN74LV74ADGVR
designator U?
Dual Positive-Edge-Triggered D-Type Flip-Flops, DGV0014A, LARGE T&R; Generic Part Number: SN74LV74A; Manufacturer: Texas Instruments; PartNumber: SN74LV74ADGVR; VCC(Min)(V): 2; VCC(Max)(V): 5.5; Output Type: CMOS; ICC @ Nom Voltage(Max)(mA): 0.02; F @ Nom Voltage(Max)(Mhz): 70; Rating: Catalog; Technology Family: LV-A; Voltage(Nom)(V): 2.5,3.3,5; Schmitt Trigger: No; Output Drive (IOL/IOH)(Max)(mA): 50/-50; Output Logic: Inverted,Non-inverted; tpd @ Nom Voltage(Max)(ns): 17,14.5,9; DatasheetVersion: SCLS381M; PackageReference: DGV0014A; Supplier 1: Digi-Key; Supplier Part Number 1: 296-9842-2-ND; Supplier 2: Digi-Key; Supplier Part Number 2: 296-9842-1-ND; Supplier 3: Digi-Key; Supplier Part Number 3: 296-9842-6-ND; Supplier 4: Mouser; Supplier Part Number 4: 595-SN74LV74ADGVR; Input Type: CMOS; Bits(#): 2; Operating Temperature Range(C): -40 to 125,-40 to 85; 3-State Output: No; Code_JEDEC: MO-194; ComponentLink1Description: Manufacturer URL; ComponentLink1URL: http://www.ti.com/; ComponentLink2Description: Datasheet; ComponentLink2URL: http://www.ti.com/lit/ds/symlink/sn74lv74a.pdf; ComponentLink3Description: Package Specification; ComponentLink3URL: http://www.ti.com/lit/ml/mpds006c/mpds006c.pdf
footprint DGV0014A_N (SOP, 14-Leads, Body 4.5x3.7mm, Pitch 0.4mm, IPC Medium Density)
footprint DGV0014A_M (SOP, 14-Leads, Body 4.5x3.7mm, Pitch 0.4mm, IPC Low Density)
footprint DGV0014A_L (SOP, 14-Leads, Body 4.5x3.7mm, Pitch 0.4mm, IPC High Density)
part A pins: 1 1~{CLR} (in), 2 1D (in), 3 1CLK (in), 4 1~{PRE} (in), 5 1Q (out), 6 1Q (out)
part B pins: 8 2Q (out), 9 2Q (out), 10 2~{PRE} (in), 11 2CLK (in), 12 2D (in), 13 2~{CLR} (in)
part C pins: 7 GND (power), 14 VCC (power)
part A text: PRE; CLR
part B text: PRE; CLR

## SN74LV74ADR
designator U?
Dual Positive-Edge-Triggered D-Type Flip-Flops, D0014A, LARGE T&R; Generic Part Number: SN74LV74A; Manufacturer: Texas Instruments; PartNumber: SN74LV74ADR; VCC(Min)(V): 2; VCC(Max)(V): 5.5; Output Type: CMOS; ICC @ Nom Voltage(Max)(mA): 0.02; F @ Nom Voltage(Max)(Mhz): 70; Rating: Catalog; Technology Family: LV-A; Voltage(Nom)(V): 2.5,3.3,5; Schmitt Trigger: No; Output Drive (IOL/IOH)(Max)(mA): 50/-50; Output Logic: Inverted,Non-inverted; tpd @ Nom Voltage(Max)(ns): 17,14.5,9; DatasheetVersion: SCLS381M; PackageReference: D0014A; Supplier 1: Digi-Key; Supplier Part Number 1: 296-26566-2-ND; Supplier 2: Digi-Key; Supplier Part Number 2: 296-26566-1-ND; Supplier 3: Digi-Key; Supplier Part Number 3: 296-26566-6-ND; Supplier 4: Newark; Supplier Part Number 4: 76C4926; Supplier 5: Mouser; Supplier Part Number 5: 595-SN74LV74ADR; Input Type: CMOS; Bits(#): 2; Operating Temperature Range(C): -40 to 125,-40 to 85; 3-State Output: No; Code_JEDEC: MS-012; ComponentLink1Description: Manufacturer URL; ComponentLink1URL: http://www.ti.com/; ComponentLink2Description: Datasheet; ComponentLink2URL: http://www.ti.com/lit/ds/symlink/sn74lv74a.pdf; ComponentLink3Description: Package Specification; ComponentLink3URL: http://www.ti.com/lit/ml/mpds177g/mpds177g.pdf
footprint D0014A_N (SOIC, 14-Leads, Body 8.75x4mm, Pitch 1.27mm, IPC Medium Density)
footprint D0014A_M (SOIC, 14-Leads, Body 8.75x4mm, Pitch 1.27mm, IPC Low Density)
footprint D0014A_L (SOIC, 14-Leads, Body 8.75x4mm, Pitch 1.27mm, IPC High Density)
part A pins: 1 1~{CLR} (in), 2 1D (in), 3 1CLK (in), 4 1~{PRE} (in), 5 1Q (out), 6 1Q (out)
part B pins: 8 2Q (out), 9 2Q (out), 10 2~{PRE} (in), 11 2CLK (in), 12 2D (in), 13 2~{CLR} (in)
part C pins: 7 GND (power), 14 VCC (power)
part A text: PRE; CLR
part B text: PRE; CLR

## SN74LV74AMPWREP
designator U?
Enhanced Product Dual Positive-Edge-Triggered D-Type Flip-Flops, PW0014A, LARGE T&R; Generic Part Number: SN74LV74A-EP; Manufacturer: Texas Instruments; PartNumber: SN74LV74AMPWREP; VCC(Min)(V): 2; VCC(Max)(V): 5.5; ICC @ Nom Voltage(Max)(mA): 0.02; F @ Nom Voltage(Max)(Mhz): 70; Rating: HiRel Enhanced Product; Technology Family: LV-A; Voltage(Nom)(V): 2.5,3.3,5; Schmitt Trigger: No; Output Drive (IOL/IOH)(Max)(mA): 50/-50; tpd @ Nom Voltage(Max)(ns): 20,18,12; DatasheetVersion: SCLS696; PackageReference: PW0014A; Supplier 1: Digi-Key; Supplier Part Number 1: 296-19446-2-ND; Supplier 2: Digi-Key; Supplier Part Number 2: 296-19446-1-ND; Supplier 3: Digi-Key; Supplier Part Number 3: 296-19446-6-ND; Supplier 4: Mouser; Supplier Part Number 4: 595-SN74LV74AMPWREP; Operating Temperature Range(C): -55 to 125; Code_JEDEC: MO-153; ComponentLink1Description: Manufacturer URL; ComponentLink1URL: http://www.ti.com/; ComponentLink2Description: Datasheet; ComponentLink2URL: http://www.ti.com/lit/ds/symlink/sn74lv74a-ep.pdf; ComponentLink3Description: Package Specification; ComponentLink3URL: http://www.ti.com/lit/ml/mpds360/mpds360.pdf
footprint PW0014A_N (SOP, 14-Leads, Body 5.1x4.5mm, Pitch 0.65mm, IPC Medium Density)
footprint PW0014A_M (SOP, 14-Leads, Body 5.1x4.5mm, Pitch 0.65mm, IPC Low Density)
footprint PW0014A_L (SOP, 14-Leads, Body 5.1x4.5mm, Pitch 0.65mm, IPC High Density)
part A pins: 1 1~{CLR} (in), 2 1D (in), 3 1CLK (in), 4 1~{PRE} (in), 5 1Q (out), 6 1Q (out)
part B pins: 8 2Q (out), 9 2Q (out), 10 2~{PRE} (in), 11 2CLK (in), 12 2D (in), 13 2~{CLR} (in)
part C pins: 7 GND (power), 14 VCC (power)
part A text: PRE; CLR
part B text: PRE; CLR

## SN74LV74ANSR
designator U?
Dual Positive-Edge-Triggered D-Type Flip-Flops, NS0014A, LARGE T&R; Generic Part Number: SN74LV74A; Manufacturer: Texas Instruments; PartNumber: SN74LV74ANSR; VCC(Min)(V): 2; VCC(Max)(V): 5.5; Output Type: CMOS; ICC @ Nom Voltage(Max)(mA): 0.02; F @ Nom Voltage(Max)(Mhz): 70; Rating: Catalog; Technology Family: LV-A; Voltage(Nom)(V): 2.5,3.3,5; Schmitt Trigger: No; Output Drive (IOL/IOH)(Max)(mA): 50/-50; Output Logic: Inverted,Non-inverted; tpd @ Nom Voltage(Max)(ns): 17,14.5,9; DatasheetVersion: SCLS381M; PackageReference: NS0014A; Supplier 1: Digi-Key; Supplier Part Number 1: 296-26567-2-ND; Supplier 2: Digi-Key; Supplier Part Number 2: 296-26567-1-ND; Supplier 3: Digi-Key; Supplier Part Number 3: 296-26567-6-ND; Supplier 4: Mouser; Supplier Part Number 4: 595-SN74LV74ANSR; Input Type: CMOS; Bits(#): 2; Operating Temperature Range(C): -40 to 125,-40 to 85; 3-State Output: No; ComponentLink1Description: Manufacturer URL; ComponentLink1URL: http://www.ti.com/; ComponentLink2Description: Datasheet; ComponentLink2URL: http://www.ti.com/lit/ds/symlink/sn74lv74a.pdf; ComponentLink3Description: Package Specification; ComponentLink3URL: http://www.ti.com/lit/ml/msop002a/msop002a.pdf
footprint NS0014A_N (SOIC,14-Leads,Body 10.5x5.6mm,Pitch 1.27mm,IPC Medium Density)
footprint NS0014A_M (SOIC,14-Leads,Body 10.5x5.6mm,Pitch 1.27mm,IPC Low Density)
footprint NS0014A_L (SOIC,14-Leads,Body 10.5x5.6mm,Pitch 0.4mm,IPC High Density)
part A pins: 1 1~{CLR} (in), 2 1D (in), 3 1CLK (in), 4 1~{PRE} (in), 5 1Q (out), 6 1Q (out)
part B pins: 8 2Q (out), 9 2Q (out), 10 2~{PRE} (in), 11 2CLK (in), 12 2D (in), 13 2~{CLR} (in)
part C pins: 7 GND (power), 14 VCC (power)
part A text: PRE; CLR
part B text: PRE; CLR

## SN74LV74APW
designator U?
Dual Positive-Edge-Triggered D-Type Flip-Flops, PW0014A, TUBE; Generic Part Number: SN74LV74A; Manufacturer: Texas Instruments; PartNumber: SN74LV74APW; VCC(Min)(V): 2; VCC(Max)(V): 5.5; Output Type: CMOS; ICC @ Nom Voltage(Max)(mA): 0.02; F @ Nom Voltage(Max)(Mhz): 70; Rating: Catalog; Technology Family: LV-A; Voltage(Nom)(V): 2.5,3.3,5; Schmitt Trigger: No; Output Drive (IOL/IOH)(Max)(mA): 50/-50; Output Logic: Inverted,Non-inverted; tpd @ Nom Voltage(Max)(ns): 17,14.5,9; DatasheetVersion: SCLS381M; PackageReference: PW0014A; Supplier 1: Digi-Key; Supplier Part Number 1: 296-26568-5-ND; Supplier 2: Farnell; Supplier Part Number 2: 1287519; Supplier 3: Newark; Supplier Part Number 3: 22H0439; Supplier 4: Mouser; Supplier Part Number 4: 595-SN74LV74APW; Input Type: CMOS; Bits(#): 2; Operating Temperature Range(C): -40 to 125,-40 to 85; 3-State Output: No; Code_JEDEC: MO-153; ComponentLink1Description: Manufacturer URL; ComponentLink1URL: http://www.ti.com/; ComponentLink2Description: Datasheet; ComponentLink2URL: http://www.ti.com/lit/ds/symlink/sn74lv74a.pdf; ComponentLink3Description: Package Specification; ComponentLink3URL: http://www.ti.com/lit/ml/mpds360/mpds360.pdf
footprint PW0014A_N (SOP, 14-Leads, Body 5.1x4.5mm, Pitch 0.65mm, IPC Medium Density)
footprint PW0014A_M (SOP, 14-Leads, Body 5.1x4.5mm, Pitch 0.65mm, IPC Low Density)
footprint PW0014A_L (SOP, 14-Leads, Body 5.1x4.5mm, Pitch 0.65mm, IPC High Density)
part A pins: 1 1~{CLR} (in), 2 1D (in), 3 1CLK (in), 4 1~{PRE} (in), 5 1Q (out), 6 1Q (out)
part B pins: 8 2Q (out), 9 2Q (out), 10 2~{PRE} (in), 11 2CLK (in), 12 2D (in), 13 2~{CLR} (in)
part C pins: 7 GND (power), 14 VCC (power)
part A text: PRE; CLR
part B text: PRE; CLR

## SN74LV74APWR
designator U?
Dual Positive-Edge-Triggered D-Type Flip-Flops, PW0014A, LARGE T&R; Generic Part Number: SN74LV74A; Manufacturer: Texas Instruments; PartNumber: SN74LV74APWR; VCC(Min)(V): 2; VCC(Max)(V): 5.5; Output Type: CMOS; ICC @ Nom Voltage(Max)(mA): 0.02; F @ Nom Voltage(Max)(Mhz): 70; Rating: Catalog; Technology Family: LV-A; Voltage(Nom)(V): 2.5,3.3,5; Schmitt Trigger: No; Output Drive (IOL/IOH)(Max)(mA): 50/-50; Output Logic: Inverted,Non-inverted; tpd @ Nom Voltage(Max)(ns): 17,14.5,9; DatasheetVersion: SCLS381M; PackageReference: PW0014A; Supplier 1: Digi-Key; Supplier Part Number 1: 296-3846-2-ND; Supplier 2: Digi-Key; Supplier Part Number 2: 296-3846-1-ND; Supplier 3: Digi-Key; Supplier Part Number 3: 296-3846-6-ND; Supplier 4: Farnell; Supplier Part Number 4: 2342440; Supplier 5: Farnell; Supplier Part Number 5: 2437091; Supplier 6: Farnell; Supplier Part Number 6: 2342440RL; Supplier 7: Newark; Supplier Part Number 7: 33X1438; Supplier 8: Newark; Supplier Part Number 8: 76C4928; Supplier 9: Mouser; Supplier Part Number 9: 595-SN74LV74APWR; Input Type: CMOS; Bits(#): 2; Operating Temperature Range(C): -40 to 125,-40 to 85; 3-State Output: No; Code_JEDEC: MO-153; ComponentLink1Description: Manufacturer URL; ComponentLink1URL: http://www.ti.com/; ComponentLink2Description: Datasheet; ComponentLink2URL: http://www.ti.com/lit/ds/symlink/sn74lv74a.pdf; ComponentLink3Description: Package Specification; ComponentLink3URL: http://www.ti.com/lit/ml/mpds360/mpds360.pdf
footprint PW0014A_N (SOP, 14-Leads, Body 5.1x4.5mm, Pitch 0.65mm, IPC Medium Density)
footprint PW0014A_M (SOP, 14-Leads, Body 5.1x4.5mm, Pitch 0.65mm, IPC Low Density)
footprint PW0014A_L (SOP, 14-Leads, Body 5.1x4.5mm, Pitch 0.65mm, IPC High Density)
part A pins: 1 1~{CLR} (in), 2 1D (in), 3 1CLK (in), 4 1~{PRE} (in), 5 1Q (out), 6 1Q (out)
part B pins: 8 2Q (out), 9 2Q (out), 10 2~{PRE} (in), 11 2CLK (in), 12 2D (in), 13 2~{CLR} (in)
part C pins: 7 GND (power), 14 VCC (power)
part A text: PRE; CLR
part B text: PRE; CLR

## SN74LV74APWRG4
designator U?
Dual Positive-Edge-Triggered D-Type Flip-Flops, PW0014A, LARGE T&R; Generic Part Number: SN74LV74A; Manufacturer: Texas Instruments; PartNumber: SN74LV74APWRG4; VCC(Min)(V): 2; VCC(Max)(V): 5.5; Output Type: CMOS; ICC @ Nom Voltage(Max)(mA): 0.02; F @ Nom Voltage(Max)(Mhz): 70; Rating: Catalog; Technology Family: LV-A; Voltage(Nom)(V): 2.5,3.3,5; Schmitt Trigger: No; Output Drive (IOL/IOH)(Max)(mA): 50/-50; Output Logic: Inverted,Non-inverted; tpd @ Nom Voltage(Max)(ns): 17,14.5,9; DatasheetVersion: SCLS381M; PackageReference: PW0014A; Supplier 1: Digi-Key; Supplier Part Number 1: 296-41648-2-ND; Supplier 2: Digi-Key; Supplier Part Number 2: 296-41648-1-ND; Supplier 3: Digi-Key; Supplier Part Number 3: 296-41648-6-ND; Supplier 4: Mouser; Supplier Part Number 4: 595-SN74LV74APWRG4; Input Type: CMOS; Bits(#): 2; Operating Temperature Range(C): -40 to 125,-40 to 85; 3-State Output: No; Code_JEDEC: MO-153; ComponentLink1Description: Manufacturer URL; ComponentLink1URL: http://www.ti.com/; ComponentLink2Description: Datasheet; ComponentLink2URL: http://www.ti.com/lit/ds/symlink/sn74lv74a.pdf; ComponentLink3Description: Package Specification; ComponentLink3URL: http://www.ti.com/lit/ml/mpds360/mpds360.pdf
footprint PW0014A_N (SOP, 14-Leads, Body 5.1x4.5mm, Pitch 0.65mm, IPC Medium Density)
footprint PW0014A_M (SOP, 14-Leads, Body 5.1x4.5mm, Pitch 0.65mm, IPC Low Density)
footprint PW0014A_L (SOP, 14-Leads, Body 5.1x4.5mm, Pitch 0.65mm, IPC High Density)
part A pins: 1 1~{CLR} (in), 2 1D (in), 3 1CLK (in), 4 1~{PRE} (in), 5 1Q (out), 6 1Q (out)
part B pins: 8 2Q (out), 9 2Q (out), 10 2~{PRE} (in), 11 2CLK (in), 12 2D (in), 13 2~{CLR} (in)
part C pins: 7 GND (power), 14 VCC (power)
part A text: PRE; CLR
part B text: PRE; CLR

## SN74LV74APWT
designator U?
Dual Positive-Edge-Triggered D-Type Flip-Flops, PW0014A, SMALL T&R; Generic Part Number: SN74LV74A; Manufacturer: Texas Instruments; PartNumber: SN74LV74APWT; VCC(Min)(V): 2; VCC(Max)(V): 5.5; Output Type: CMOS; ICC @ Nom Voltage(Max)(mA): 0.02; F @ Nom Voltage(Max)(Mhz): 70; Rating: Catalog; Technology Family: LV-A; Voltage(Nom)(V): 2.5,3.3,5; Schmitt Trigger: No; Output Drive (IOL/IOH)(Max)(mA): 50/-50; Output Logic: Inverted,Non-inverted; tpd @ Nom Voltage(Max)(ns): 17,14.5,9; DatasheetVersion: SCLS381M; PackageReference: PW0014A; Supplier 1: Digi-Key; Supplier Part Number 1: 296-28632-2-ND; Supplier 2: Digi-Key; Supplier Part Number 2: 296-28632-1-ND; Supplier 3: Digi-Key; Supplier Part Number 3: 296-28632-6-ND; Supplier 4: Mouser; Supplier Part Number 4: 595-SN74LV74APWT; Input Type: CMOS; Bits(#): 2; Operating Temperature Range(C): -40 to 125,-40 to 85; 3-State Output: No; Code_JEDEC: MO-153; ComponentLink1Description: Manufacturer URL; ComponentLink1URL: http://www.ti.com/; ComponentLink2Description: Datasheet; ComponentLink2URL: http://www.ti.com/lit/ds/symlink/sn74lv74a.pdf; ComponentLink3Description: Package Specification; ComponentLink3URL: http://www.ti.com/lit/ml/mpds360/mpds360.pdf
footprint PW0014A_N (SOP, 14-Leads, Body 5.1x4.5mm, Pitch 0.65mm, IPC Medium Density)
footprint PW0014A_M (SOP, 14-Leads, Body 5.1x4.5mm, Pitch 0.65mm, IPC Low Density)
footprint PW0014A_L (SOP, 14-Leads, Body 5.1x4.5mm, Pitch 0.65mm, IPC High Density)
part A pins: 1 1~{CLR} (in), 2 1D (in), 3 1CLK (in), 4 1~{PRE} (in), 5 1Q (out), 6 1Q (out)
part B pins: 8 2Q (out), 9 2Q (out), 10 2~{PRE} (in), 11 2CLK (in), 12 2D (in), 13 2~{CLR} (in)
part C pins: 7 GND (power), 14 VCC (power)
part A text: PRE; CLR
part B text: PRE; CLR

## SN74LV74AQDRG4Q1
designator U?
Automotive Catalog Dual Positive-Edge-Triggered D-Type Flip-Flop, D0014A, LARGE T&R; Generic Part Number: SN74LV74A-Q1; Manufacturer: Texas Instruments; PartNumber: SN74LV74AQDRG4Q1; VCC(Min)(V): 2; VCC(Max)(V): 5.5; Output Type: CMOS; ICC @ Nom Voltage(Max)(mA): 0.02; F @ Nom Voltage(Max)(Mhz): 70; Technology Family: LV-A; Voltage(Nom)(V): 2.5,3.3,5; Schmitt Trigger: No; Output Drive (IOL/IOH)(Max)(mA): 50/-50; Output Logic: Inverted; tpd @ Nom Voltage(Max)(ns): 20,18,12; DatasheetVersion: SCLS556B; PackageReference: D0014A; Supplier 1: Digi-Key; Supplier Part Number 1: 296-24835-2-ND; Supplier 2: Digi-Key; Supplier Part Number 2: 296-24835-1-ND; Supplier 3: Digi-Key; Supplier Part Number 3: 296-24835-6-ND; Supplier 4: Mouser; Supplier Part Number 4: 595-SN74LV74AQDRG4Q1; Output: CMOS; Input Type: CMOS; Bits(#): 2; Operating Temperature Range(C): -40 to 125; Rating: Automotive; 3-State Output: No; Code_JEDEC: MS-012; ComponentLink1Description: Manufacturer URL; ComponentLink1URL: http://www.ti.com/; ComponentLink2Description: Datasheet; ComponentLink2URL: http://www.ti.com/lit/ds/symlink/sn74lv74a-q1.pdf; ComponentLink3Description: Package Specification; ComponentLink3URL: http://www.ti.com/lit/ml/mpds177g/mpds177g.pdf
footprint D0014A_N (SOIC, 14-Leads, Body 8.75x4mm, Pitch 1.27mm, IPC Medium Density)
footprint D0014A_M (SOIC, 14-Leads, Body 8.75x4mm, Pitch 1.27mm, IPC Low Density)
footprint D0014A_L (SOIC, 14-Leads, Body 8.75x4mm, Pitch 1.27mm, IPC High Density)
part A pins: 1 1~{CLR} (in), 2 1D (in), 3 1CLK (in), 4 1~{PRE} (in), 5 1Q (out), 6 1Q (out)
part B pins: 8 2Q (out), 9 2Q (out), 10 2~{PRE} (in), 11 2CLK (in), 12 2D (in), 13 2~{CLR} (in)
part C pins: 7 GND (power), 14 VCC (power)
part A text: PRE; CLR
part B text: PRE; CLR

## SN74LV74AQDRQ1
designator U?
Automotive Catalog Dual Positive-Edge-Triggered D-Type Flip-Flop, D0014A, LARGE T&R; Generic Part Number: SN74LV74A-Q1; Manufacturer: Texas Instruments; PartNumber: SN74LV74AQDRQ1; VCC(Min)(V): 2; VCC(Max)(V): 5.5; Output Type: CMOS; ICC @ Nom Voltage(Max)(mA): 0.02; F @ Nom Voltage(Max)(Mhz): 70; Technology Family: LV-A; Voltage(Nom)(V): 2.5,3.3,5; Schmitt Trigger: No; Output Drive (IOL/IOH)(Max)(mA): 50/-50; Output Logic: Inverted; tpd @ Nom Voltage(Max)(ns): 20,18,12; DatasheetVersion: SCLS556B; PackageReference: D0014A; Supplier 1: Digi-Key; Supplier Part Number 1: 296-20685-2-ND; Supplier 2: Digi-Key; Supplier Part Number 2: 296-20685-1-ND; Supplier 3: Digi-Key; Supplier Part Number 3: 296-20685-6-ND; Supplier 4: Mouser; Supplier Part Number 4: 595-SN74LV74AQDRQ1; Output: CMOS; Input Type: CMOS; Bits(#): 2; Operating Temperature Range(C): -40 to 125; Rating: Automotive; 3-State Output: No; Code_JEDEC: MS-012; ComponentLink1Description: Manufacturer URL; ComponentLink1URL: http://www.ti.com/; ComponentLink2Description: Datasheet; ComponentLink2URL: http://www.ti.com/lit/ds/symlink/sn74lv74a-q1.pdf; ComponentLink3Description: Package Specification; ComponentLink3URL: http://www.ti.com/lit/ml/mpds177g/mpds177g.pdf
footprint D0014A_N (SOIC, 14-Leads, Body 8.75x4mm, Pitch 1.27mm, IPC Medium Density)
footprint D0014A_M (SOIC, 14-Leads, Body 8.75x4mm, Pitch 1.27mm, IPC Low Density)
footprint D0014A_L (SOIC, 14-Leads, Body 8.75x4mm, Pitch 1.27mm, IPC High Density)
part A pins: 1 1~{CLR} (in), 2 1D (in), 3 1CLK (in), 4 1~{PRE} (in), 5 1Q (out), 6 1Q (out)
part B pins: 8 2Q (out), 9 2Q (out), 10 2~{PRE} (in), 11 2CLK (in), 12 2D (in), 13 2~{CLR} (in)
part C pins: 7 GND (power), 14 VCC (power)
part A text: PRE; CLR
part B text: PRE; CLR

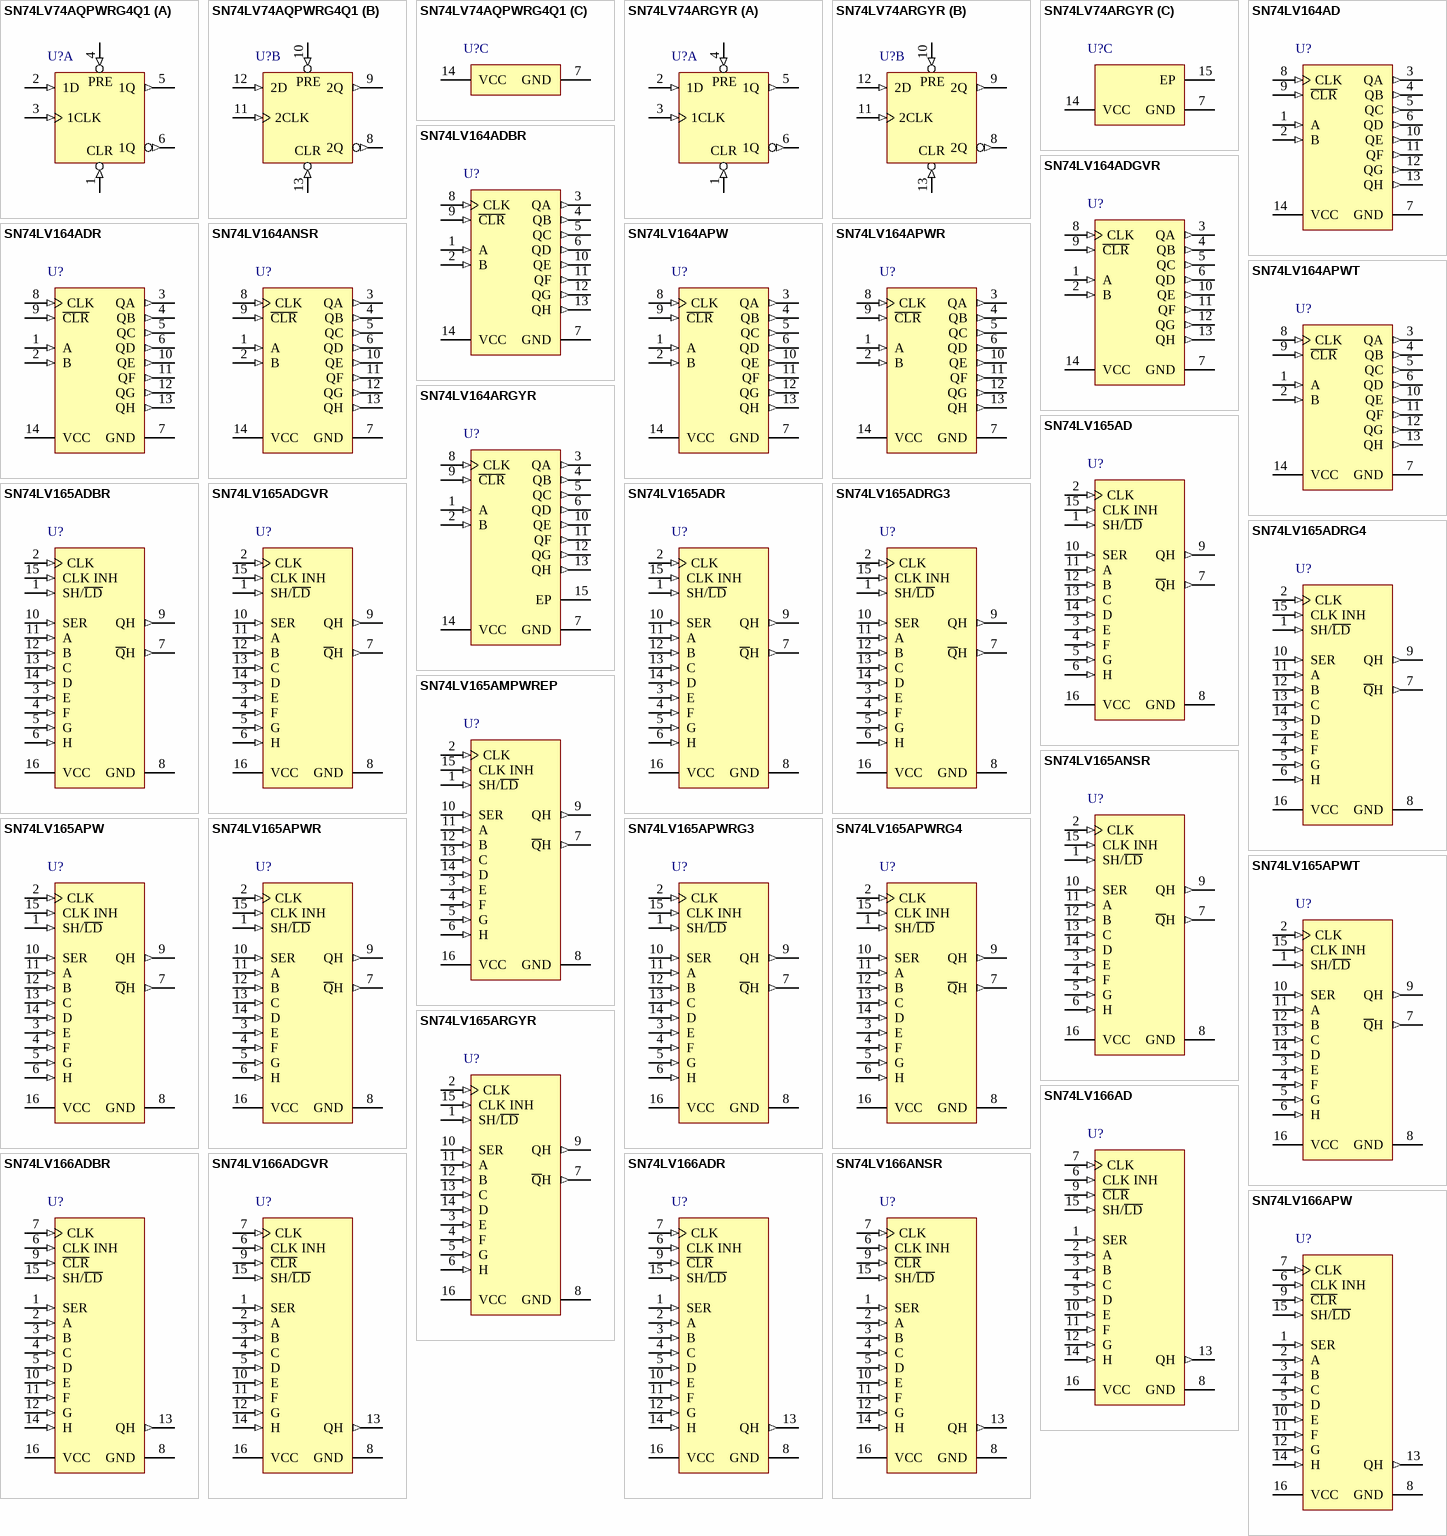
[diagram p98: symbols SN74LV74AQPWRG4Q1 to SN74LV166APW]

## SN74LV74AQPWRG4Q1
designator U?
Automotive Catalog Dual Positive-Edge-Triggered D-Type Flip-Flop, PW0014A, LARGE T&R; Generic Part Number: SN74LV74A-Q1; Manufacturer: Texas Instruments; PartNumber: SN74LV74AQPWRG4Q1; VCC(Min)(V): 2; VCC(Max)(V): 5.5; Output Type: CMOS; ICC @ Nom Voltage(Max)(mA): 0.02; F @ Nom Voltage(Max)(Mhz): 70; Technology Family: LV-A; Voltage(Nom)(V): 2.5,3.3,5; Schmitt Trigger: No; Output Drive (IOL/IOH)(Max)(mA): 50/-50; Output Logic: Inverted; tpd @ Nom Voltage(Max)(ns): 20,18,12; DatasheetVersion: SCLS556B; PackageReference: PW0014A; Supplier 1: Digi-Key; Supplier Part Number 1: SN74LV74AQPWRG4Q1-ND; Supplier 2: Mouser; Supplier Part Number 2: 595-N74LV74AQPWRG4Q1; Output: CMOS; Input Type: CMOS; Bits(#): 2; Operating Temperature Range(C): -40 to 125; Rating: Automotive; 3-State Output: No; Code_JEDEC: MO-153; ComponentLink1Description: Manufacturer URL; ComponentLink1URL: http://www.ti.com/; ComponentLink2Description: Datasheet; ComponentLink2URL: http://www.ti.com/lit/ds/symlink/sn74lv74a-q1.pdf; ComponentLink3Description: Package Specification; ComponentLink3URL: http://www.ti.com/lit/ml/mpds360/mpds360.pdf
footprint PW0014A_N (SOP, 14-Leads, Body 5.1x4.5mm, Pitch 0.65mm, IPC Medium Density)
footprint PW0014A_M (SOP, 14-Leads, Body 5.1x4.5mm, Pitch 0.65mm, IPC Low Density)
footprint PW0014A_L (SOP, 14-Leads, Body 5.1x4.5mm, Pitch 0.65mm, IPC High Density)
part A pins: 1 1~{CLR} (in), 2 1D (in), 3 1CLK (in), 4 1~{PRE} (in), 5 1Q (out), 6 1Q (out)
part B pins: 8 2Q (out), 9 2Q (out), 10 2~{PRE} (in), 11 2CLK (in), 12 2D (in), 13 2~{CLR} (in)
part C pins: 7 GND (power), 14 VCC (power)
part A text: PRE; CLR
part B text: PRE; CLR

## SN74LV74ARGYR
designator U?
Dual Positive-Edge-Triggered D-Type Flip-Flops, RGY0014A, LARGE T&R; Generic Part Number: SN74LV74A; Manufacturer: Texas Instruments; PartNumber: SN74LV74ARGYR; VCC(Min)(V): 2; VCC(Max)(V): 5.5; Output Type: CMOS; ICC @ Nom Voltage(Max)(mA): 0.02; F @ Nom Voltage(Max)(Mhz): 70; Rating: Catalog; Technology Family: LV-A; Voltage(Nom)(V): 2.5,3.3,5; Schmitt Trigger: No; Output Drive (IOL/IOH)(Max)(mA): 50/-50; Output Logic: Inverted,Non-inverted; tpd @ Nom Voltage(Max)(ns): 17,14.5,9; DatasheetVersion: SCLS381M; PackageReference: RGY0014A; Supplier 1: Digi-Key; Supplier Part Number 1: 296-13953-2-ND; Supplier 2: Digi-Key; Supplier Part Number 2: 296-13953-1-ND; Supplier 3: Digi-Key; Supplier Part Number 3: 296-13953-6-ND; Supplier 4: Newark; Supplier Part Number 4: 02E7072; Supplier 5: Mouser; Supplier Part Number 5: 595-SN74LV74ARGYR; Input Type: CMOS; Bits(#): 2; Operating Temperature Range(C): -40 to 125,-40 to 85; 3-State Output: No; Code_JEDEC: MO-241; ComponentLink1Description: Manufacturer URL; ComponentLink1URL: http://www.ti.com/; ComponentLink2Description: Datasheet; ComponentLink2URL: http://www.ti.com/lit/ds/symlink/sn74lv74a.pdf; ComponentLink3Description: Package Specification; ComponentLink3URL: http://www.ti.com/lit/ml/mpqf114g/mpqf114g.pdf
footprint RGY0014A_V (QFN, 14-Leads, Body 3.5x3.5mm, Thermal Pad 2.05x2.05mm, TI Recommend)
part A pins: 1 1~{CLR} (in), 2 1D (in), 3 1CLK (in), 4 1~{PRE} (in), 5 1Q (out), 6 1Q (out)
part B pins: 8 2Q (out), 9 2Q (out), 10 2~{PRE} (in), 11 2CLK (in), 12 2D (in), 13 2~{CLR} (in)
part C pins: 7 GND (power), 14 VCC (power) "Supply voltage input", 15 EP
part A text: PRE; CLR
part B text: PRE; CLR